# EAGLE library part DS3231 (library charlespax)
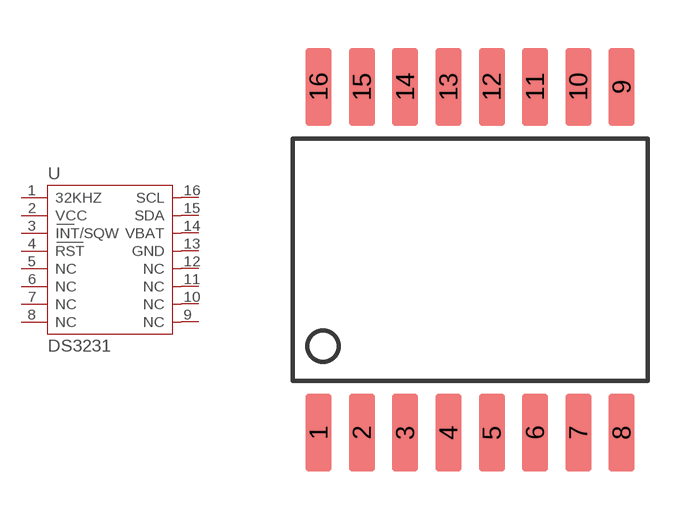
[diagram p1: symbol with the pads of DS3231; footprint DS3231]

Designator prefix U

## DS3231  [DS3231]
1  32KHZ  out
2  VCC  sup
3  INT/SQW  out
4  RST
5  NC  nc
6  NC  nc
7  NC  nc
8  NC  nc
9  NC  nc
10  NC  nc
11  NC  nc
12  NC  nc
13  GND  sup
14  VBAT  in
15  SDA
16  SCL  in

## Footprint DS3231 (pad centres in mm)
SMALL OUTLINE J LEADS body 7.63 mm
smd 0.762 x 2.286: 1 -4.445,-5.08; 2 -3.175,-5.08; 3 -1.905,-5.08; 4 -0.635,-5.08; 5 0.635,-5.08; 6 1.905,-5.08; 7 3.175,-5.08; 8 4.445,-5.08; 9 4.445,5.08; 10 3.175,5.08; 11 1.905,5.08; 12 0.635,5.08; 13 -0.635,5.08; 14 -1.905,5.08; 15 -3.175,5.08; 16 -4.445,5.08